# Altium schematic symbol library 691250610002.SchLib: 1 symbol
Pins are listed as number, name and electrical type; pins without a type are passive.

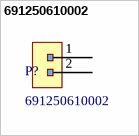
[diagram p0: symbol 691250610002]

## 691250610002
designator P?
6.35 MM TERMINAL BLOCK, HORIZONT; MFR: Würth Elektronik; Positions: 2; Rows: 1; Voltage Rating: 300V; Current Rating: 24A; Pin Count: 2; PN: 691250610002; ComponentLink1Description: Datasheet; ComponentLink1URL: http://katalog.we-online.de/em/datasheet/6912506100xx.pdf; Supplier 1: Digi-Key; Supplier Part Number 1: 732-691250610002-ND
footprint PCBComponent_1
pins: 1, 2